# Altium schematic symbol library B105misc.SchLib: 3 symbols
Pins are listed as number, name and electrical type; pins without a type are passive.

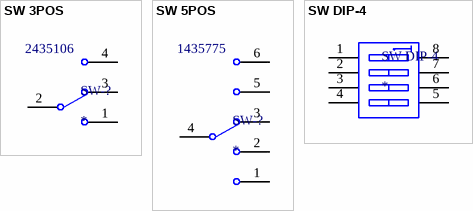
[diagram p0: symbols SW 3POS to SW DIP-4]

## SW 3POS
designator SW-?  Supplier Part Number 1: 2435106
Supplier 1: Farnell
footprint SW-3POS
pins: 1, 2, 3, 4

## SW 5POS
designator SW-?  Supplier Part Number 1: 1435775
Supplier 1: Farnell
footprint Header-1x6
pins: 1, 2, 3, 4, 5, 6

## SW DIP-4
designator SW DIP-4
footprint TSOP-8N-127-DIP-SWITCH (TSOP, 8-Leads, Body 6.35x4.50mm, Pitch 1.27mm, IPC Medium Density)
pins: 1 A1, 2 A2, 3 A3, 4 A4, 5 B4, 6 B3, 7 B2, 8 B1